# Altium footprint library UFQFPN0.50P4.0X4.0X0.6-28EP.PcbLib: 3 footprints
Each footprint in its own frame and in the unit in brackets; x right, y up, seen from the top. Pads: shape width x height; smd on the part's side, far side on the other; paste and mask are expansions set on the pad; w line width, h text height; cw(c..) or ccw(c..) is an arc to the next point about the centre after c.
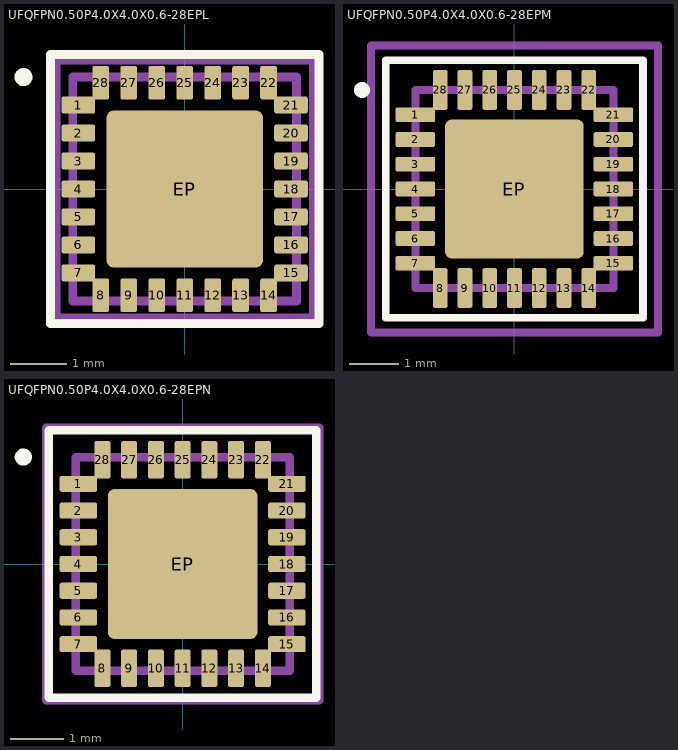
[diagram p0: the footprints below, top view; thin cyan lines are the x and y axes]

## UFQFPN0.50P4.0X4.0X0.6-28EPL [mm] "UFQFPN 28 4x4x0.55 mm"
height 0.55
pads (29):
  rrect25% 0.6x0.3 smd: 1(-1.9,1.5) 2(-1.9,1) 3(-1.9,0.5) 4(-1.9,0) 5(-1.9,-0.5) 6(-1.9,-1) 7(-1.9,-1.5) 15(1.9,-1.5) 16(1.9,-1) 17(1.9,-0.5) 18(1.9,0) 19(1.9,0.5) 20(1.9,1) 21(1.9,1.5)
  rrect25% 0.3x0.6 smd: 8(-1.5,-1.9) 9(-1,-1.9) 10(-0.5,-1.9) 11(0,-1.9) 12(0.5,-1.9) 13(1,-1.9) 14(1.5,-1.9) 22(1.5,1.9) 23(1,1.9) 24(0.5,1.9) 25(0,1.9) 26(-0.5,1.9) 27(-1,1.9) 28(-1.5,1.9)
  rrect9% 2.8x2.8 smd: EP(0,0)
Top Overlay:
  circle w0.16: c-2.88,2 r0.08
  lines w0.16: -2.4,-2.4 2.4,-2.4 2.4,2.4 -2.4,2.4 -2.4,-2.4
Top Component Center:
  lines w0.1: -0.5,0 0.5,0 ; 0,-0.5 0,0.5
Top Courtyard:
  lines w0.16: -2.3,-2.3 2.3,-2.3 2.3,2.3 -2.3,2.3 -2.3,-2.3
Top Assembly:
  lines w0.16: -2,-2 2,-2 2,2 -2,2 -2,-2
3D body "UFQFPN0.50P4.0X4.0X0.6-28EPL.STEP": height 1, standoff 0

## UFQFPN0.50P4.0X4.0X0.6-28EPM [mm] "UFQFPN 28 4x4x0.55 mm"
height 0.55
pads (29):
  rrect25% 0.8x0.3 smd: 1(-2,1.5) 2(-2,1) 3(-2,0.5) 4(-2,0) 5(-2,-0.5) 6(-2,-1) 7(-2,-1.5) 15(2,-1.5) 16(2,-1) 17(2,-0.5) 18(2,0) 19(2,0.5) 20(2,1) 21(2,1.5)
  rrect25% 0.3x0.8 smd: 8(-1.5,-2) 9(-1,-2) 10(-0.5,-2) 11(0,-2) 12(0.5,-2) 13(1,-2) 14(1.5,-2) 22(1.5,2) 23(1,2) 24(0.5,2) 25(0,2) 26(-0.5,2) 27(-1,2) 28(-1.5,2)
  rrect9% 2.8x2.8 smd: EP(0,0)
Top Overlay:
  circle w0.16: c-3.08,2 r0.08
  lines w0.16: -2.6,-2.6 2.6,-2.6 2.6,2.6 -2.6,2.6 -2.6,-2.6
Top Component Center:
  lines w0.1: -0.5,0 0.5,0 ; 0,-0.5 0,0.5
Top Courtyard:
  lines w0.16: -2.9,-2.9 2.9,-2.9 2.9,2.9 -2.9,2.9 -2.9,-2.9
Top Assembly:
  lines w0.16: -2,-2 2,-2 2,2 -2,2 -2,-2
3D body "UFQFPN0.50P4.0X4.0X0.6-28EPM.STEP": height 1, standoff 0

## UFQFPN0.50P4.0X4.0X0.6-28EPN [mm] "UFQFPN 28 4x4x0.55 mm"
height 0.55
pads (29):
  rrect25% 0.7x0.3 smd: 1(-1.95,1.5) 2(-1.95,1) 3(-1.95,0.5) 4(-1.95,0) 5(-1.95,-0.5) 6(-1.95,-1) 7(-1.95,-1.5) 15(1.95,-1.5) 16(1.95,-1) 17(1.95,-0.5) 18(1.95,0) 19(1.95,0.5) 20(1.95,1) 21(1.95,1.5)
  rrect25% 0.3x0.7 smd: 8(-1.5,-1.95) 9(-1,-1.95) 10(-0.5,-1.95) 11(0,-1.95) 12(0.5,-1.95) 13(1,-1.95) 14(1.5,-1.95) 22(1.5,1.95) 23(1,1.95) 24(0.5,1.95) 25(0,1.95) 26(-0.5,1.95) 27(-1,1.95) 28(-1.5,1.95)
  rrect9% 2.8x2.8 smd: EP(0,0)
Top Overlay:
  circle w0.16: c-2.98,2 r0.08
  lines w0.16: -2.5,-2.5 2.5,-2.5 2.5,2.5 -2.5,2.5 -2.5,-2.5
Top Component Center:
  lines w0.1: -0.5,0 0.5,0 ; 0,-0.5 0,0.5
Top Courtyard:
  lines w0.16: -2.55,-2.55 2.55,-2.55 2.55,2.55 -2.55,2.55 -2.55,-2.55
Top Assembly:
  lines w0.16: -2,-2 2,-2 2,2 -2,2 -2,-2
3D body "UFQFPN0.50P4.0X4.0X0.6-28EPN.STEP": height 1, standoff 0